# Altium footprint library 18_09.PcbLib: 2 footprints
Each footprint in its own frame and in the unit in brackets; x right, y up, seen from the top. Pads: shape width x height; smd on the part's side, far side on the other; paste and mask are expansions set on the pad; w line width, h text height; cw(c..) or ccw(c..) is an arc to the next point about the centre after c.
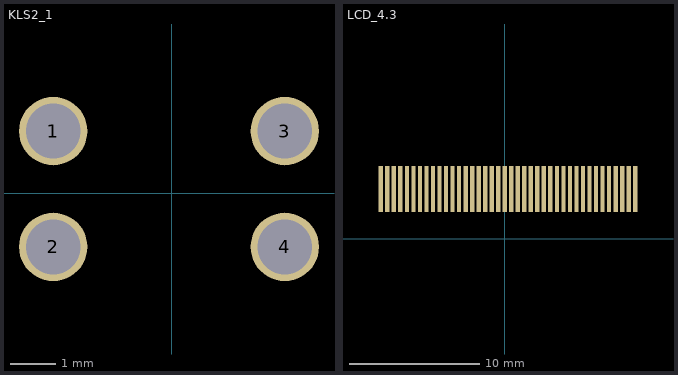
[diagram p0: the footprints below, top view; thin cyan lines are the x and y axes]

## KLS2_1 [mm]
pads (4):
  round 1.5 hole 1.2: 1(-2.605,1.365) 2(-2.605,-1.175) 3(2.475,1.365) 4(2.475,-1.175)

## LCD_4.3 [mm]
pads (40):
  rect 0.33x3.5 smd: 1(-9.5,3.8) 2(-9,3.8) 3(-8.5,3.8) 4(-8,3.8) 5(-7.5,3.8) 6(-7,3.8) 7(-6.5,3.8) 8(-6,3.8) 9(-5.5,3.8) 10(-5,3.8) 11(-4.5,3.8) 12(-4,3.8) 13(-3.5,3.8) 14(-3,3.8) 15(-2.5,3.8) 16(-2,3.8) 17(-1.5,3.8) 18(-1,3.8) 19(-0.5,3.8) 20(0,3.8) 21(0.5,3.8) 22(1,3.8) 23(1.5,3.8) 24(2,3.8) 25(2.5,3.8) 26(3,3.8) 27(3.5,3.8) 28(4,3.8) 29(4.5,3.8) 30(5,3.8) 31(5.5,3.8) 32(6,3.8) 33(6.5,3.8) 34(7,3.8) 35(7.5,3.8) 36(8,3.8) 37(8.5,3.8) 38(9,3.8) 39(9.5,3.8) 40(10,3.8)